# Altium schematic symbol library Capacitors.SchLib: 67 symbols
Pins are listed as number, name and electrical type; pins without a type are passive.

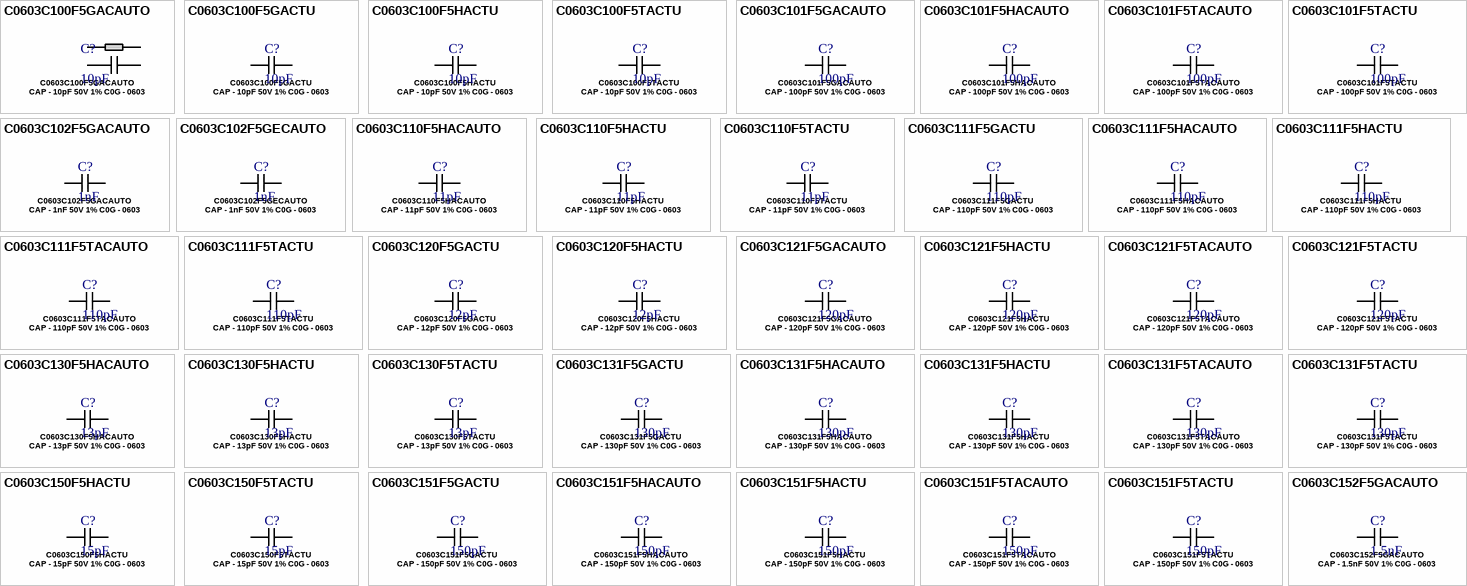
[diagram p0: symbols C0603C100F5GACAUTO to C0603C152F5GACAUTO]

## C0603C100F5GACAUTO
designator C?, comment 10pF  MPN: C0603C100F5GACAUTO
CAP - 10pF 50V 1% C0G - 0603; Manufacturer: KEMET; Datasheet: https://www.kemet.com/content/dam/kemet/lightning/upload/2019/08/KEM_C1026_C0G_SMD.pdf; DES: CAP - 10pF 50V 1% C0G - 0603
footprint C0603
pins: 1 ~, 1 ~, 2 ~, 2 ~

## C0603C100F5GACTU
designator C?, comment 10pF  MPN: C0603C100F5GACTU
CAP - 10pF 50V 1% C0G - 0603; Manufacturer: KEMET; Datasheet: https://www.kemet.com/content/dam/kemet/lightning/upload/2019/08/KEM_C1026_C0G_SMD.pdf; DES: CAP - 10pF 50V 1% C0G - 0603
footprint C0603
pins: 1 ~, 2 ~

## C0603C100F5HACTU
designator C?, comment 10pF  MPN: C0603C100F5HACTU
CAP - 10pF 50V 1% C0G - 0603; Manufacturer: KEMET; Datasheet: https://www.kemet.com/content/dam/kemet/lightning/upload/2019/08/KEM_C1026_C0G_SMD.pdf; DES: CAP - 10pF 50V 1% C0G - 0603
footprint C0603
pins: 1 ~, 2 ~

## C0603C100F5TACTU
designator C?, comment 10pF  MPN: C0603C100F5TACTU
CAP - 10pF 50V 1% C0G - 0603; Manufacturer: KEMET; Datasheet: https://www.kemet.com/content/dam/kemet/lightning/upload/2019/08/KEM_C1026_C0G_SMD.pdf; DES: CAP - 10pF 50V 1% C0G - 0603
footprint C0603
pins: 1 ~, 2 ~

## C0603C101F5GACAUTO
designator C?, comment 100pF  MPN: C0603C101F5GACAUTO
CAP - 100pF 50V 1% C0G - 0603; Manufacturer: KEMET; Datasheet: https://www.kemet.com/content/dam/kemet/lightning/upload/2019/08/KEM_C1026_C0G_SMD.pdf; DES: CAP - 100pF 50V 1% C0G - 0603
footprint C0603
pins: 1 ~, 2 ~

## C0603C101F5HACAUTO
designator C?, comment 100pF  MPN: C0603C101F5HACAUTO
CAP - 100pF 50V 1% C0G - 0603; Manufacturer: KEMET; Datasheet: https://www.kemet.com/content/dam/kemet/lightning/upload/2019/08/KEM_C1026_C0G_SMD.pdf; DES: CAP - 100pF 50V 1% C0G - 0603
footprint C0603
pins: 1 ~, 2 ~

## C0603C101F5TACAUTO
designator C?, comment 100pF  MPN: C0603C101F5TACAUTO
CAP - 100pF 50V 1% C0G - 0603; Manufacturer: KEMET; Datasheet: https://www.kemet.com/content/dam/kemet/lightning/upload/2019/08/KEM_C1026_C0G_SMD.pdf; DES: CAP - 100pF 50V 1% C0G - 0603
footprint C0603
pins: 1 ~, 2 ~

## C0603C101F5TACTU
designator C?, comment 100pF  MPN: C0603C101F5TACTU
CAP - 100pF 50V 1% C0G - 0603; Manufacturer: KEMET; Datasheet: https://www.kemet.com/content/dam/kemet/lightning/upload/2019/08/KEM_C1026_C0G_SMD.pdf; DES: CAP - 100pF 50V 1% C0G - 0603
footprint C0603
pins: 1 ~, 2 ~

## C0603C102F5GACAUTO
designator C?, comment 1nF  MPN: C0603C102F5GACAUTO
CAP - 1nF 50V 1% C0G - 0603; Manufacturer: KEMET; Datasheet: https://www.kemet.com/content/dam/kemet/lightning/upload/2019/08/KEM_C1026_C0G_SMD.pdf; DES: CAP - 1nF 50V 1% C0G - 0603
footprint C0603
pins: 1 ~, 2 ~

## C0603C102F5GECAUTO
designator C?, comment 1nF  MPN: C0603C102F5GECAUTO
CAP - 1nF 50V 1% C0G - 0603; Manufacturer: KEMET; Datasheet: https://www.kemet.com/content/dam/kemet/lightning/upload/2019/08/KEM_C1026_C0G_SMD.pdf; DES: CAP - 1nF 50V 1% C0G - 0603
footprint C0603
pins: 1 ~, 2 ~

## C0603C110F5HACAUTO
designator C?, comment 11pF  MPN: C0603C110F5HACAUTO
CAP - 11pF 50V 1% C0G - 0603; Manufacturer: KEMET; Datasheet: https://www.kemet.com/content/dam/kemet/lightning/upload/2019/08/KEM_C1026_C0G_SMD.pdf; DES: CAP - 11pF 50V 1% C0G - 0603
footprint C0603
pins: 1 ~, 2 ~

## C0603C110F5HACTU
designator C?, comment 11pF  MPN: C0603C110F5HACTU
CAP - 11pF 50V 1% C0G - 0603; Manufacturer: KEMET; Datasheet: https://www.kemet.com/content/dam/kemet/lightning/upload/2019/08/KEM_C1026_C0G_SMD.pdf; DES: CAP - 11pF 50V 1% C0G - 0603
footprint C0603
pins: 1 ~, 2 ~

## C0603C110F5TACTU
designator C?, comment 11pF  MPN: C0603C110F5TACTU
CAP - 11pF 50V 1% C0G - 0603; Manufacturer: KEMET; Datasheet: https://www.kemet.com/content/dam/kemet/lightning/upload/2019/08/KEM_C1026_C0G_SMD.pdf; DES: CAP - 11pF 50V 1% C0G - 0603
footprint C0603
pins: 1 ~, 2 ~

## C0603C111F5GACTU
designator C?, comment 110pF  MPN: C0603C111F5GACTU
CAP - 110pF 50V 1% C0G - 0603; Manufacturer: KEMET; Datasheet: https://www.kemet.com/content/dam/kemet/lightning/upload/2019/08/KEM_C1026_C0G_SMD.pdf; DES: CAP - 110pF 50V 1% C0G - 0603
footprint C0603
pins: 1 ~, 2 ~

## C0603C111F5HACAUTO
designator C?, comment 110pF  MPN: C0603C111F5HACAUTO
CAP - 110pF 50V 1% C0G - 0603; Manufacturer: KEMET; Datasheet: https://www.kemet.com/content/dam/kemet/lightning/upload/2019/08/KEM_C1026_C0G_SMD.pdf; DES: CAP - 110pF 50V 1% C0G - 0603
footprint C0603
pins: 1 ~, 2 ~

## C0603C111F5HACTU
designator C?, comment 110pF  MPN: C0603C111F5HACTU
CAP - 110pF 50V 1% C0G - 0603; Manufacturer: KEMET; Datasheet: https://www.kemet.com/content/dam/kemet/lightning/upload/2019/08/KEM_C1026_C0G_SMD.pdf; DES: CAP - 110pF 50V 1% C0G - 0603
footprint C0603
pins: 1 ~, 2 ~

## C0603C111F5TACAUTO
designator C?, comment 110pF  MPN: C0603C111F5TACAUTO
CAP - 110pF 50V 1% C0G - 0603; Manufacturer: KEMET; Datasheet: https://www.kemet.com/content/dam/kemet/lightning/upload/2019/08/KEM_C1026_C0G_SMD.pdf; DES: CAP - 110pF 50V 1% C0G - 0603
footprint C0603
pins: 1 ~, 2 ~

## C0603C111F5TACTU
designator C?, comment 110pF  MPN: C0603C111F5TACTU
CAP - 110pF 50V 1% C0G - 0603; Manufacturer: KEMET; Datasheet: https://www.kemet.com/content/dam/kemet/lightning/upload/2019/08/KEM_C1026_C0G_SMD.pdf; DES: CAP - 110pF 50V 1% C0G - 0603
footprint C0603
pins: 1 ~, 2 ~

## C0603C120F5GACTU
designator C?, comment 12pF  MPN: C0603C120F5GACTU
CAP - 12pF 50V 1% C0G - 0603; Manufacturer: KEMET; Datasheet: https://www.kemet.com/content/dam/kemet/lightning/upload/2019/08/KEM_C1026_C0G_SMD.pdf; DES: CAP - 12pF 50V 1% C0G - 0603
footprint C0603
pins: 1 ~, 2 ~

## C0603C120F5HACTU
designator C?, comment 12pF  MPN: C0603C120F5HACTU
CAP - 12pF 50V 1% C0G - 0603; Manufacturer: KEMET; Datasheet: https://www.kemet.com/content/dam/kemet/lightning/upload/2019/08/KEM_C1026_C0G_SMD.pdf; DES: CAP - 12pF 50V 1% C0G - 0603
footprint C0603
pins: 1 ~, 2 ~

## C0603C121F5GACAUTO
designator C?, comment 120pF  MPN: C0603C121F5GACAUTO
CAP - 120pF 50V 1% C0G - 0603; Manufacturer: KEMET; Datasheet: https://www.kemet.com/content/dam/kemet/lightning/upload/2019/08/KEM_C1026_C0G_SMD.pdf; DES: CAP - 120pF 50V 1% C0G - 0603
footprint C0603
pins: 1 ~, 2 ~

## C0603C121F5HACTU
designator C?, comment 120pF  MPN: C0603C121F5HACTU
CAP - 120pF 50V 1% C0G - 0603; Manufacturer: KEMET; Datasheet: https://www.kemet.com/content/dam/kemet/lightning/upload/2019/08/KEM_C1026_C0G_SMD.pdf; DES: CAP - 120pF 50V 1% C0G - 0603
footprint C0603
pins: 1 ~, 2 ~

## C0603C121F5TACAUTO
designator C?, comment 120pF  MPN: C0603C121F5TACAUTO
CAP - 120pF 50V 1% C0G - 0603; Manufacturer: KEMET; Datasheet: https://www.kemet.com/content/dam/kemet/lightning/upload/2019/08/KEM_C1026_C0G_SMD.pdf; DES: CAP - 120pF 50V 1% C0G - 0603
footprint C0603
pins: 1 ~, 2 ~

## C0603C121F5TACTU
designator C?, comment 120pF  MPN: C0603C121F5TACTU
CAP - 120pF 50V 1% C0G - 0603; Manufacturer: KEMET; Datasheet: https://www.kemet.com/content/dam/kemet/lightning/upload/2019/08/KEM_C1026_C0G_SMD.pdf; DES: CAP - 120pF 50V 1% C0G - 0603
footprint C0603
pins: 1 ~, 2 ~

## C0603C130F5HACAUTO
designator C?, comment 13pF  MPN: C0603C130F5HACAUTO
CAP - 13pF 50V 1% C0G - 0603; Manufacturer: KEMET; Datasheet: https://www.kemet.com/content/dam/kemet/lightning/upload/2019/08/KEM_C1026_C0G_SMD.pdf; DES: CAP - 13pF 50V 1% C0G - 0603
footprint C0603
pins: 1 ~, 2 ~

## C0603C130F5HACTU
designator C?, comment 13pF  MPN: C0603C130F5HACTU
CAP - 13pF 50V 1% C0G - 0603; Manufacturer: KEMET; Datasheet: https://www.kemet.com/content/dam/kemet/lightning/upload/2019/08/KEM_C1026_C0G_SMD.pdf; DES: CAP - 13pF 50V 1% C0G - 0603
footprint C0603
pins: 1 ~, 2 ~

## C0603C130F5TACTU
designator C?, comment 13pF  MPN: C0603C130F5TACTU
CAP - 13pF 50V 1% C0G - 0603; Manufacturer: KEMET; Datasheet: https://www.kemet.com/content/dam/kemet/lightning/upload/2019/08/KEM_C1026_C0G_SMD.pdf; DES: CAP - 13pF 50V 1% C0G - 0603
footprint C0603
pins: 1 ~, 2 ~

## C0603C131F5GACTU
designator C?, comment 130pF  MPN: C0603C131F5GACTU
CAP - 130pF 50V 1% C0G - 0603; Manufacturer: KEMET; Datasheet: https://www.kemet.com/content/dam/kemet/lightning/upload/2019/08/KEM_C1026_C0G_SMD.pdf; DES: CAP - 130pF 50V 1% C0G - 0603
footprint C0603
pins: 1 ~, 2 ~

## C0603C131F5HACAUTO
designator C?, comment 130pF  MPN: C0603C131F5HACAUTO
CAP - 130pF 50V 1% C0G - 0603; Manufacturer: KEMET; Datasheet: https://www.kemet.com/content/dam/kemet/lightning/upload/2019/08/KEM_C1026_C0G_SMD.pdf; DES: CAP - 130pF 50V 1% C0G - 0603
footprint C0603
pins: 1 ~, 2 ~

## C0603C131F5HACTU
designator C?, comment 130pF  MPN: C0603C131F5HACTU
CAP - 130pF 50V 1% C0G - 0603; Manufacturer: KEMET; Datasheet: https://www.kemet.com/content/dam/kemet/lightning/upload/2019/08/KEM_C1026_C0G_SMD.pdf; DES: CAP - 130pF 50V 1% C0G - 0603
footprint C0603
pins: 1 ~, 2 ~

## C0603C131F5TACAUTO
designator C?, comment 130pF  MPN: C0603C131F5TACAUTO
CAP - 130pF 50V 1% C0G - 0603; Manufacturer: KEMET; Datasheet: https://www.kemet.com/content/dam/kemet/lightning/upload/2019/08/KEM_C1026_C0G_SMD.pdf; DES: CAP - 130pF 50V 1% C0G - 0603
footprint C0603
pins: 1 ~, 2 ~

## C0603C131F5TACTU
designator C?, comment 130pF  MPN: C0603C131F5TACTU
CAP - 130pF 50V 1% C0G - 0603; Manufacturer: KEMET; Datasheet: https://www.kemet.com/content/dam/kemet/lightning/upload/2019/08/KEM_C1026_C0G_SMD.pdf; DES: CAP - 130pF 50V 1% C0G - 0603
footprint C0603
pins: 1 ~, 2 ~

## C0603C150F5HACTU
designator C?, comment 15pF  MPN: C0603C150F5HACTU
CAP - 15pF 50V 1% C0G - 0603; Manufacturer: KEMET; Datasheet: https://www.kemet.com/content/dam/kemet/lightning/upload/2019/08/KEM_C1026_C0G_SMD.pdf; DES: CAP - 15pF 50V 1% C0G - 0603
footprint C0603
pins: 1 ~, 2 ~

## C0603C150F5TACTU
designator C?, comment 15pF  MPN: C0603C150F5TACTU
CAP - 15pF 50V 1% C0G - 0603; Manufacturer: KEMET; Datasheet: https://www.kemet.com/content/dam/kemet/lightning/upload/2019/08/KEM_C1026_C0G_SMD.pdf; DES: CAP - 15pF 50V 1% C0G - 0603
footprint C0603
pins: 1 ~, 2 ~

## C0603C151F5GACTU
designator C?, comment 150pF  MPN: C0603C151F5GACTU
CAP - 150pF 50V 1% C0G - 0603; Manufacturer: KEMET; Datasheet: https://www.kemet.com/content/dam/kemet/lightning/upload/2019/08/KEM_C1026_C0G_SMD.pdf; DES: CAP - 150pF 50V 1% C0G - 0603
footprint C0603
pins: 1 ~, 2 ~

## C0603C151F5HACAUTO
designator C?, comment 150pF  MPN: C0603C151F5HACAUTO
CAP - 150pF 50V 1% C0G - 0603; Manufacturer: KEMET; Datasheet: https://www.kemet.com/content/dam/kemet/lightning/upload/2019/08/KEM_C1026_C0G_SMD.pdf; DES: CAP - 150pF 50V 1% C0G - 0603
footprint C0603
pins: 1 ~, 2 ~

## C0603C151F5HACTU
designator C?, comment 150pF  MPN: C0603C151F5HACTU
CAP - 150pF 50V 1% C0G - 0603; Manufacturer: KEMET; Datasheet: https://www.kemet.com/content/dam/kemet/lightning/upload/2019/08/KEM_C1026_C0G_SMD.pdf; DES: CAP - 150pF 50V 1% C0G - 0603
footprint C0603
pins: 1 ~, 2 ~

## C0603C151F5TACAUTO
designator C?, comment 150pF  MPN: C0603C151F5TACAUTO
CAP - 150pF 50V 1% C0G - 0603; Manufacturer: KEMET; Datasheet: https://www.kemet.com/content/dam/kemet/lightning/upload/2019/08/KEM_C1026_C0G_SMD.pdf; DES: CAP - 150pF 50V 1% C0G - 0603
footprint C0603
pins: 1 ~, 2 ~

## C0603C151F5TACTU
designator C?, comment 150pF  MPN: C0603C151F5TACTU
CAP - 150pF 50V 1% C0G - 0603; Manufacturer: KEMET; Datasheet: https://www.kemet.com/content/dam/kemet/lightning/upload/2019/08/KEM_C1026_C0G_SMD.pdf; DES: CAP - 150pF 50V 1% C0G - 0603
footprint C0603
pins: 1 ~, 2 ~

## C0603C152F5GACAUTO
designator C?, comment 1.5nF  MPN: C0603C152F5GACAUTO
CAP - 1.5nF 50V 1% C0G - 0603; Manufacturer: KEMET; Datasheet: https://www.kemet.com/content/dam/kemet/lightning/upload/2019/08/KEM_C1026_C0G_SMD.pdf; DES: CAP - 1.5nF 50V 1% C0G - 0603
footprint C0603
pins: 1 ~, 2 ~

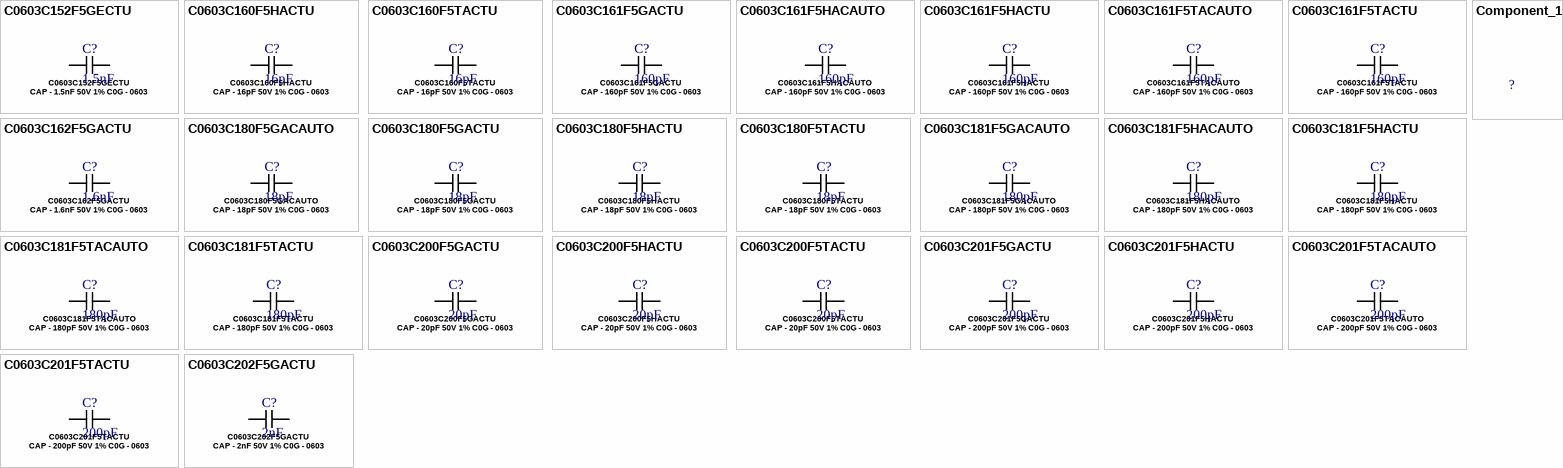
[diagram p1: symbols C0603C152F5GECTU to Component_1]

## C0603C152F5GECTU
designator C?, comment 1.5nF  MPN: C0603C152F5GECTU
CAP - 1.5nF 50V 1% C0G - 0603; Manufacturer: KEMET; Datasheet: https://www.kemet.com/content/dam/kemet/lightning/upload/2019/08/KEM_C1026_C0G_SMD.pdf; DES: CAP - 1.5nF 50V 1% C0G - 0603
footprint C0603
pins: 1 ~, 2 ~

## C0603C160F5HACTU
designator C?, comment 16pF  MPN: C0603C160F5HACTU
CAP - 16pF 50V 1% C0G - 0603; Manufacturer: KEMET; Datasheet: https://www.kemet.com/content/dam/kemet/lightning/upload/2019/08/KEM_C1026_C0G_SMD.pdf; DES: CAP - 16pF 50V 1% C0G - 0603
footprint C0603
pins: 1 ~, 2 ~

## C0603C160F5TACTU
designator C?, comment 16pF  MPN: C0603C160F5TACTU
CAP - 16pF 50V 1% C0G - 0603; Manufacturer: KEMET; Datasheet: https://www.kemet.com/content/dam/kemet/lightning/upload/2019/08/KEM_C1026_C0G_SMD.pdf; DES: CAP - 16pF 50V 1% C0G - 0603
footprint C0603
pins: 1 ~, 2 ~

## C0603C161F5GACTU
designator C?, comment 160pF  MPN: C0603C161F5GACTU
CAP - 160pF 50V 1% C0G - 0603; Manufacturer: KEMET; Datasheet: https://www.kemet.com/content/dam/kemet/lightning/upload/2019/08/KEM_C1026_C0G_SMD.pdf; DES: CAP - 160pF 50V 1% C0G - 0603
footprint C0603
pins: 1 ~, 2 ~

## C0603C161F5HACAUTO
designator C?, comment 160pF  MPN: C0603C161F5HACAUTO
CAP - 160pF 50V 1% C0G - 0603; Manufacturer: KEMET; Datasheet: https://www.kemet.com/content/dam/kemet/lightning/upload/2019/08/KEM_C1026_C0G_SMD.pdf; DES: CAP - 160pF 50V 1% C0G - 0603
footprint C0603
pins: 1 ~, 2 ~

## C0603C161F5HACTU
designator C?, comment 160pF  MPN: C0603C161F5HACTU
CAP - 160pF 50V 1% C0G - 0603; Manufacturer: KEMET; Datasheet: https://www.kemet.com/content/dam/kemet/lightning/upload/2019/08/KEM_C1026_C0G_SMD.pdf; DES: CAP - 160pF 50V 1% C0G - 0603
footprint C0603
pins: 1 ~, 2 ~

## C0603C161F5TACAUTO
designator C?, comment 160pF  MPN: C0603C161F5TACAUTO
CAP - 160pF 50V 1% C0G - 0603; Manufacturer: KEMET; Datasheet: https://www.kemet.com/content/dam/kemet/lightning/upload/2019/08/KEM_C1026_C0G_SMD.pdf; DES: CAP - 160pF 50V 1% C0G - 0603
footprint C0603
pins: 1 ~, 2 ~

## C0603C161F5TACTU
designator C?, comment 160pF  MPN: C0603C161F5TACTU
CAP - 160pF 50V 1% C0G - 0603; Manufacturer: KEMET; Datasheet: https://www.kemet.com/content/dam/kemet/lightning/upload/2019/08/KEM_C1026_C0G_SMD.pdf; DES: CAP - 160pF 50V 1% C0G - 0603
footprint C0603
pins: 1 ~, 2 ~

## C0603C162F5GACTU
designator C?, comment 1.6nF  MPN: C0603C162F5GACTU
CAP - 1.6nF 50V 1% C0G - 0603; Manufacturer: KEMET; Datasheet: https://www.kemet.com/content/dam/kemet/lightning/upload/2019/08/KEM_C1026_C0G_SMD.pdf; DES: CAP - 1.6nF 50V 1% C0G - 0603
footprint C0603
pins: 1 ~, 2 ~

## C0603C180F5GACAUTO
designator C?, comment 18pF  MPN: C0603C180F5GACAUTO
CAP - 18pF 50V 1% C0G - 0603; Manufacturer: KEMET; Datasheet: https://www.kemet.com/content/dam/kemet/lightning/upload/2019/08/KEM_C1026_C0G_SMD.pdf; DES: CAP - 18pF 50V 1% C0G - 0603
footprint C0603
pins: 1 ~, 2 ~

## C0603C180F5GACTU
designator C?, comment 18pF  MPN: C0603C180F5GACTU
CAP - 18pF 50V 1% C0G - 0603; Manufacturer: KEMET; Datasheet: https://www.kemet.com/content/dam/kemet/lightning/upload/2019/08/KEM_C1026_C0G_SMD.pdf; DES: CAP - 18pF 50V 1% C0G - 0603
footprint C0603
pins: 1 ~, 2 ~

## C0603C180F5HACTU
designator C?, comment 18pF  MPN: C0603C180F5HACTU
CAP - 18pF 50V 1% C0G - 0603; Manufacturer: KEMET; Datasheet: https://www.kemet.com/content/dam/kemet/lightning/upload/2019/08/KEM_C1026_C0G_SMD.pdf; DES: CAP - 18pF 50V 1% C0G - 0603
footprint C0603
pins: 1 ~, 2 ~

## C0603C180F5TACTU
designator C?, comment 18pF  MPN: C0603C180F5TACTU
CAP - 18pF 50V 1% C0G - 0603; Manufacturer: KEMET; Datasheet: https://www.kemet.com/content/dam/kemet/lightning/upload/2019/08/KEM_C1026_C0G_SMD.pdf; DES: CAP - 18pF 50V 1% C0G - 0603
footprint C0603
pins: 1 ~, 2 ~

## C0603C181F5GACAUTO
designator C?, comment 180pF  MPN: C0603C181F5GACAUTO
CAP - 180pF 50V 1% C0G - 0603; Manufacturer: KEMET; Datasheet: https://www.kemet.com/content/dam/kemet/lightning/upload/2019/08/KEM_C1026_C0G_SMD.pdf; DES: CAP - 180pF 50V 1% C0G - 0603
footprint C0603
pins: 1 ~, 2 ~

## C0603C181F5HACAUTO
designator C?, comment 180pF  MPN: C0603C181F5HACAUTO
CAP - 180pF 50V 1% C0G - 0603; Manufacturer: KEMET; Datasheet: https://www.kemet.com/content/dam/kemet/lightning/upload/2019/08/KEM_C1026_C0G_SMD.pdf; DES: CAP - 180pF 50V 1% C0G - 0603
footprint C0603
pins: 1 ~, 2 ~

## C0603C181F5HACTU
designator C?, comment 180pF  MPN: C0603C181F5HACTU
CAP - 180pF 50V 1% C0G - 0603; Manufacturer: KEMET; Datasheet: https://www.kemet.com/content/dam/kemet/lightning/upload/2019/08/KEM_C1026_C0G_SMD.pdf; DES: CAP - 180pF 50V 1% C0G - 0603
footprint C0603
pins: 1 ~, 2 ~

## C0603C181F5TACAUTO
designator C?, comment 180pF  MPN: C0603C181F5TACAUTO
CAP - 180pF 50V 1% C0G - 0603; Manufacturer: KEMET; Datasheet: https://www.kemet.com/content/dam/kemet/lightning/upload/2019/08/KEM_C1026_C0G_SMD.pdf; DES: CAP - 180pF 50V 1% C0G - 0603
footprint C0603
pins: 1 ~, 2 ~

## C0603C181F5TACTU
designator C?, comment 180pF  MPN: C0603C181F5TACTU
CAP - 180pF 50V 1% C0G - 0603; Manufacturer: KEMET; Datasheet: https://www.kemet.com/content/dam/kemet/lightning/upload/2019/08/KEM_C1026_C0G_SMD.pdf; DES: CAP - 180pF 50V 1% C0G - 0603
footprint C0603
pins: 1 ~, 2 ~

## C0603C200F5GACTU
designator C?, comment 20pF  MPN: C0603C200F5GACTU
CAP - 20pF 50V 1% C0G - 0603; Manufacturer: KEMET; Datasheet: https://www.kemet.com/content/dam/kemet/lightning/upload/2019/08/KEM_C1026_C0G_SMD.pdf; DES: CAP - 20pF 50V 1% C0G - 0603
footprint C0603
pins: 1 ~, 2 ~

## C0603C200F5HACTU
designator C?, comment 20pF  MPN: C0603C200F5HACTU
CAP - 20pF 50V 1% C0G - 0603; Manufacturer: KEMET; Datasheet: https://www.kemet.com/content/dam/kemet/lightning/upload/2019/08/KEM_C1026_C0G_SMD.pdf; DES: CAP - 20pF 50V 1% C0G - 0603
footprint C0603
pins: 1 ~, 2 ~

## C0603C200F5TACTU
designator C?, comment 20pF  MPN: C0603C200F5TACTU
CAP - 20pF 50V 1% C0G - 0603; Manufacturer: KEMET; Datasheet: https://www.kemet.com/content/dam/kemet/lightning/upload/2019/08/KEM_C1026_C0G_SMD.pdf; DES: CAP - 20pF 50V 1% C0G - 0603
footprint C0603
pins: 1 ~, 2 ~

## C0603C201F5GACTU
designator C?, comment 200pF  MPN: C0603C201F5GACTU
CAP - 200pF 50V 1% C0G - 0603; Manufacturer: KEMET; Datasheet: https://www.kemet.com/content/dam/kemet/lightning/upload/2019/08/KEM_C1026_C0G_SMD.pdf; DES: CAP - 200pF 50V 1% C0G - 0603
footprint C0603
pins: 1 ~, 2 ~

## C0603C201F5HACTU
designator C?, comment 200pF  MPN: C0603C201F5HACTU
CAP - 200pF 50V 1% C0G - 0603; Manufacturer: KEMET; Datasheet: https://www.kemet.com/content/dam/kemet/lightning/upload/2019/08/KEM_C1026_C0G_SMD.pdf; DES: CAP - 200pF 50V 1% C0G - 0603
footprint C0603
pins: 1 ~, 2 ~

## C0603C201F5TACAUTO
designator C?, comment 200pF  MPN: C0603C201F5TACAUTO
CAP - 200pF 50V 1% C0G - 0603; Manufacturer: KEMET; Datasheet: https://www.kemet.com/content/dam/kemet/lightning/upload/2019/08/KEM_C1026_C0G_SMD.pdf; DES: CAP - 200pF 50V 1% C0G - 0603
footprint C0603
pins: 1 ~, 2 ~

## C0603C201F5TACTU
designator C?, comment 200pF  MPN: C0603C201F5TACTU
CAP - 200pF 50V 1% C0G - 0603; Manufacturer: KEMET; Datasheet: https://www.kemet.com/content/dam/kemet/lightning/upload/2019/08/KEM_C1026_C0G_SMD.pdf; DES: CAP - 200pF 50V 1% C0G - 0603
footprint C0603
pins: 1 ~, 2 ~

## C0603C202F5GACTU
designator C?, comment 2nF  MPN: C0603C202F5GACTU
CAP - 2nF 50V 1% C0G - 0603; Manufacturer: KEMET; Datasheet: https://www.kemet.com/content/dam/kemet/lightning/upload/2019/08/KEM_C1026_C0G_SMD.pdf; DES: CAP - 2nF 50V 1% C0G - 0603
footprint C0603
pins: 1 ~, 2 ~

## Component_1
designator ?